# Altium schematic symbol library LED_ASMT-YTD7-0AA02.SchLib: 1 symbol
Pins are listed as number, name and electrical type; pins without a type are passive.

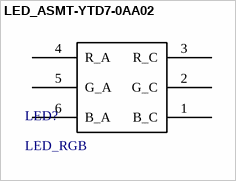
[diagram p0: symbol LED_ASMT-YTD7-0AA02]

## LED_ASMT-YTD7-0AA02
designator LED?, comment LED_RGB
footprint LED_ASMT-YTD7-0AA02
pins: 1 B_C, 2 G_C, 3 R_C, 4 R_A, 5 G_A, 6 B_A